# Altium schematic symbol library BAT20JFILM.SCHLIB: 4 symbols
Pins are listed as number, name and electrical type; pins without a type are passive.

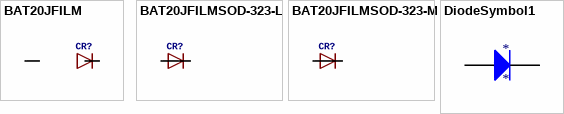
[diagram p0: symbols BAT20JFILM to DiodeSymbol1]

## BAT20JFILM
designator CR?
GateName_1: A; SymbolName_1: DIODE; DeviceSetName: BAT20JFILM; VENDOR: STMicroelectronics; LibraryName: BAT20JFILM; Package: SOD-323; MANUFACTURER_PART_NUMBER: BAT20JFILM
footprint SOD-323
pins: 1 11, 2 22

## BAT20JFILMSOD-323-L
designator CR?
GateName_1: A; SymbolName_1: DIODE; DeviceName: SOD-323-L; DeviceSetName: BAT20JFILM; VENDOR: STMicroelectronics; LibraryName: BAT20JFILM; Package: SOD-323-L; MANUFACTURER_PART_NUMBER: BAT20JFILM
footprint SOD-323-L
pins: 1 11, 2 22

## BAT20JFILMSOD-323-M
designator CR?
GateName_1: A; SymbolName_1: DIODE; DeviceName: SOD-323-M; DeviceSetName: BAT20JFILM; VENDOR: STMicroelectronics; LibraryName: BAT20JFILM; Package: SOD-323-M; MANUFACTURER_PART_NUMBER: BAT20JFILM
footprint SOD-323-M
pins: 1 11, 2 22

## DiodeSymbol1
designator *
footprint SOD-323-M
pins: ?1, ?2